# Altium footprint library TagConnect.PcbLib: 4 footprints
Each footprint in its own frame and in the unit in brackets; x right, y up, seen from the top. Pads: shape width x height; smd on the part's side, far side on the other; paste and mask are expansions set on the pad; w line width, h text height; cw(c..) or ccw(c..) is an arc to the next point about the centre after c.
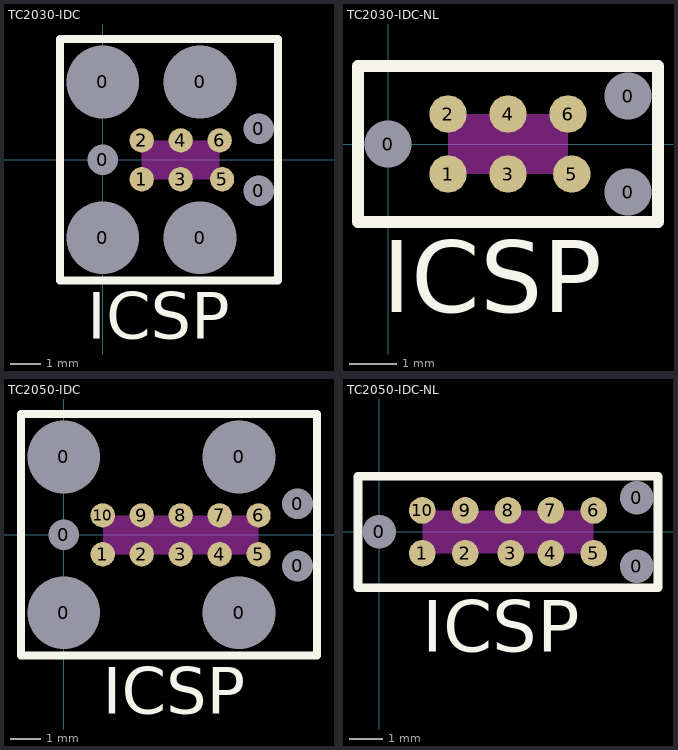
[diagram p0: the footprints below, top view; thin cyan lines are the x and y axes]

## TC2030-IDC [mm] "Tag-Connect 6-Pin with Legs (PN# TC2030-IDC-NL)"
pads (13):
  round 2.3 hole 2.375 unplated: 0(0,-2.54) 0(0,2.54) 0(3.175,-2.54) 0(3.175,2.54)
  round 0.9 hole 0.995 unplated: 0(0,0) 0(5.08,-1.016) 0(5.08,1.016)
  round 0.79 smd paste-0.39: 1(1.27,-0.635) 2(1.27,0.635) 3(2.54,-0.635) 4(2.54,0.635) 5(3.89,-0.635) 6(3.81,0.635)
Top Overlay:
  lines w0.254: -1.397,-3.937 5.715,-3.937 5.715,3.937 -1.397,3.937 -1.397,-3.937
  text "ICSP" at -0.508,-5.842 h1.52
Keep-Out Layer:
  rectangle: 1.27,-0.635 3.81,0.635

## TC2030-IDC-NL [mm] "Tag-Connect 6-Pin with No Legs (PN# TC2030-IDC-NL)"
pads (9):
  round 0.9 hole 0.995 unplated: 0(0,0) 0(5.08,-1.016) 0(5.08,1.016)
  round 0.79 smd paste-0.39: 1(1.27,-0.635) 2(1.27,0.635) 3(2.54,-0.635) 4(2.54,0.635) 5(3.89,-0.635) 6(3.81,0.635)
Top Overlay:
  lines w0.254: -0.635,-1.651 -0.635,1.651 5.715,1.651 5.715,-1.651 -0.635,-1.651
  text "ICSP" at -0.127,-3.556 h1.52
Keep-Out Layer:
  rectangle: 1.27,-0.635 3.81,0.635

## TC2050-IDC [mm] "Tag-Connect 6-Pin with Legs (PN# TC2030-IDC-NL)"
pads (17):
  round 2.3 hole 2.375 unplated: 0(0,-2.54) 0(0,2.54) 0(5.715,-2.54) 0(5.715,2.54)
  round 0.9 hole 1 unplated: 0(0,0) 0(7.62,-1.015) 0(7.62,1.015)
  round 0.79 smd paste-0.39: 1(1.27,-0.635) 2(2.54,-0.635) 3(3.81,-0.635) 4(5.08,-0.635) 5(6.35,-0.635) 6(6.35,0.635) 7(5.08,0.635) 8(3.81,0.635) 9(2.54,0.635) 10(1.27,0.635)
Top Overlay:
  lines w0.254: -1.397,-3.937 8.255,-3.937 8.255,3.937 -1.397,3.937 -1.397,-3.937
  text "ICSP" at 1.27,-5.842 h1.52
Keep-Out Layer:
  rectangle: 1.27,-0.635 6.35,0.635

## TC2050-IDC-NL [mm] "Tag-Connect 10-Pin with No Legs (PN# TC2050-IDC-NL)"
pads (13):
  round 0.9 hole 0.995 unplated: 0(0,0) 0(7.62,-1.016) 0(7.62,1.016)
  round 0.79 smd paste-0.39: 1(1.27,-0.635) 2(2.54,-0.635) 3(3.89,-0.635) 4(5.08,-0.635) 5(6.35,-0.635) 6(6.35,0.635) 7(5.08,0.635) 8(3.81,0.635) 9(2.54,0.635) 10(1.27,0.635)
Top Overlay:
  lines w0.254: -0.635,-1.651 -0.635,1.651 8.255,1.651 8.255,-1.651 -0.635,-1.651
  text "ICSP" at 1.27,-3.556 h1.52
Keep-Out Layer:
  rectangle: 1.27,-0.635 6.35,0.635